# EAGLE library part L86 (library quectel_gps)
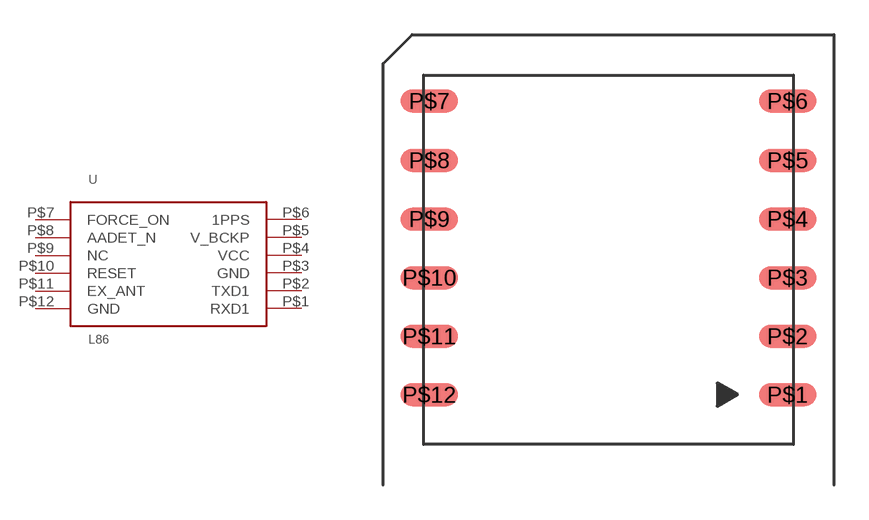
[diagram p0: symbol with the pads of L86; footprint L86]

Designator prefix -

## L86  [L86]
P$1  RXD1  in
P$2  TXD1  out
P$3  GND  pwr
P$4  VCC  pwr
P$5  V_BCKP  pwr
P$6  1PPS  out
P$7  FORCE_ON  in
P$8  AADET_N  out
P$9  NC  nc
P$10  RESET  in
P$11  EX_ANT  in
P$12  GND  pwr

## Footprint L86 (pad centres in mm)
smd 2.5 x 1: P$1 -0.25,2.15; P$2 -0.25,4.68; P$3 -0.25,7.22; P$4 -0.25,9.76; P$5 -0.25,12.3; P$6 -0.25,14.87; P$7 -15.75,14.87; P$8 -15.75,12.3; P$9 -15.75,9.76; P$10 -15.75,7.22; P$11 -15.75,4.68; P$12 -15.75,2.15